# EAGLE library part MC34674 (library bedofnails)
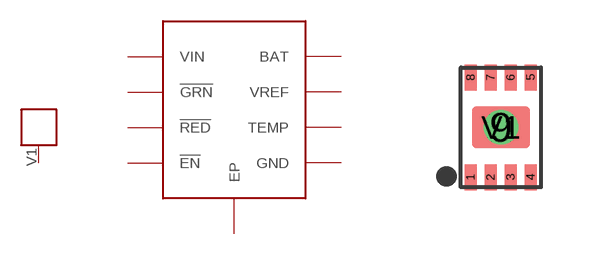
[diagram p6: symbol with the pads of UDFN-EP; footprint UDFN-EP]

Designator prefix -; gates G$1=MC34674 G$2=UDFN-EP-GND

## MC34674  [UDFN-EP]
1  G$1:VIN
2  G$1:!GRN
3  G$1:!RED
4  G$1:!EN
5  G$1:GND  pwr
6  G$1:TEMP
7  G$1:VREF
8  G$1:BAT
9  G$1:EP  pwr
V1  G$2:V1  pwr

## Footprint UDFN-EP (pad centres in mm)
smd 0.3 x 0.65: 1 -0.75,-1.25; 2 -0.25,-1.25; 3 0.25,-1.25; 4 0.75,-1.25; 5 0.75,1.25; 6 0.25,1.25; 7 -0.25,1.25; 8 -0.75,1.25
smd 1.45 x 1.05: 9 0,0
drill 0.356: V1 0,0